# EAGLE library part OMNIBOARD (library Richard)
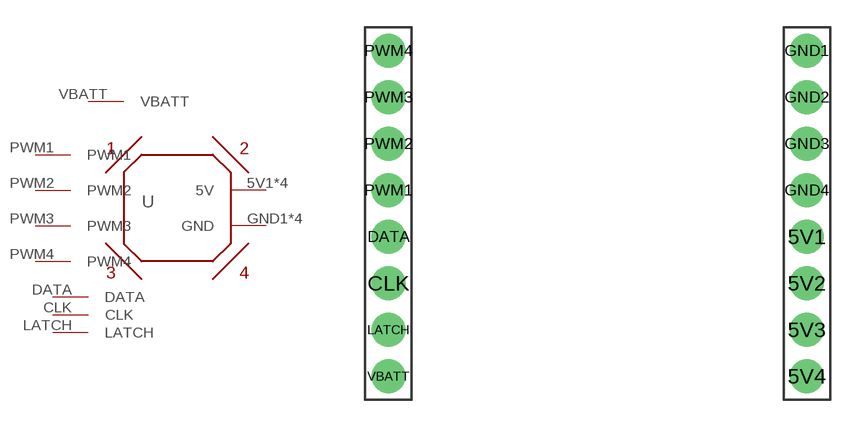
[diagram p2: symbol with the pads of OMNIBOARD; footprint OMNIBOARD]

Designator prefix -

## OMNIBOARD  [OMNIBOARD]
5V1  5V  pas
5V2  5V  pas
5V3  5V  pas
5V4  5V  pas
CLK  CLK  pas
DATA  DATA  pas
GND1  GND  pas
GND2  GND  pas
GND3  GND  pas
GND4  GND  pas
LATCH  LATCH  pas
PWM1  PWM1  pas
PWM2  PWM2  pas
PWM3  PWM3  pas
PWM4  PWM4  pas
VBATT  VBATT  pas

## Footprint OMNIBOARD (pad centres in mm)
Plated Through Hole - 2x4 Specifications: Pin count:8 Pin pitch:0.1" Example device(s): CONN_04x2
drill 1.016 pad 1.88: 5V1 11.43,-1.27; 5V2 11.43,-3.81; 5V3 11.43,-6.35; 5V4 11.43,-8.89; CLK -11.43,-3.81; DATA -11.43,-1.27; GND1 11.43,8.89; GND2 11.43,6.35; GND3 11.43,3.81; GND4 11.43,1.27; LATCH -11.43,-6.35; PWM1 -11.43,1.27; PWM2 -11.43,3.81; PWM3 -11.43,6.35; PWM4 -11.43,8.89; VBATT -11.43,-8.89